# EAGLE library part OPA2180 (library TI)
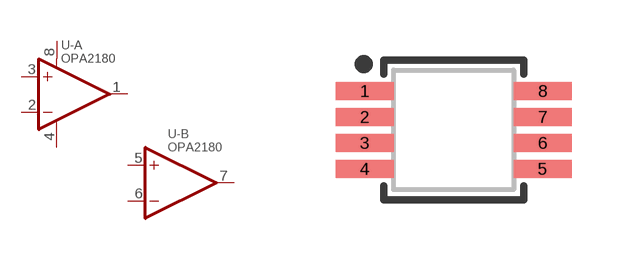
[diagram p32: symbol with the pads of MSOP-8; footprint MSOP-8]

Designator prefix U; gates -A=OPAMP_+-_VDD -B=OPAMP_+-

## OPA2180IDGKR  [MSOP-8]
1  -A:OUT  out
2  -A:-IN  in
3  -A:+IN  in
4  -A:V-  pwr
5  -B:+IN  in
6  -B:-IN  in
7  -B:OUT  out
8  -A:V+  pwr

## Footprint MSOP-8 (pad centres in mm)
smd 1.45 x 0.45: 1 -2.225,0.975; 2 -2.225,0.325; 3 -2.225,-0.325; 4 -2.225,-0.975; 5 2.225,-0.975; 6 2.225,-0.325; 7 2.225,0.325; 8 2.225,0.975